# Altium footprint library Kondensator_DIP.PcbLib: 222 footprints (part 5 of 14)
Each footprint in its own frame and in the unit in brackets; x right, y up, seen from the top. Pads: shape width x height; smd on the part's side, far side on the other; paste and mask are expansions set on the pad; w line width, h text height; cw(c..) or ccw(c..) is an arc to the next point about the centre after c.
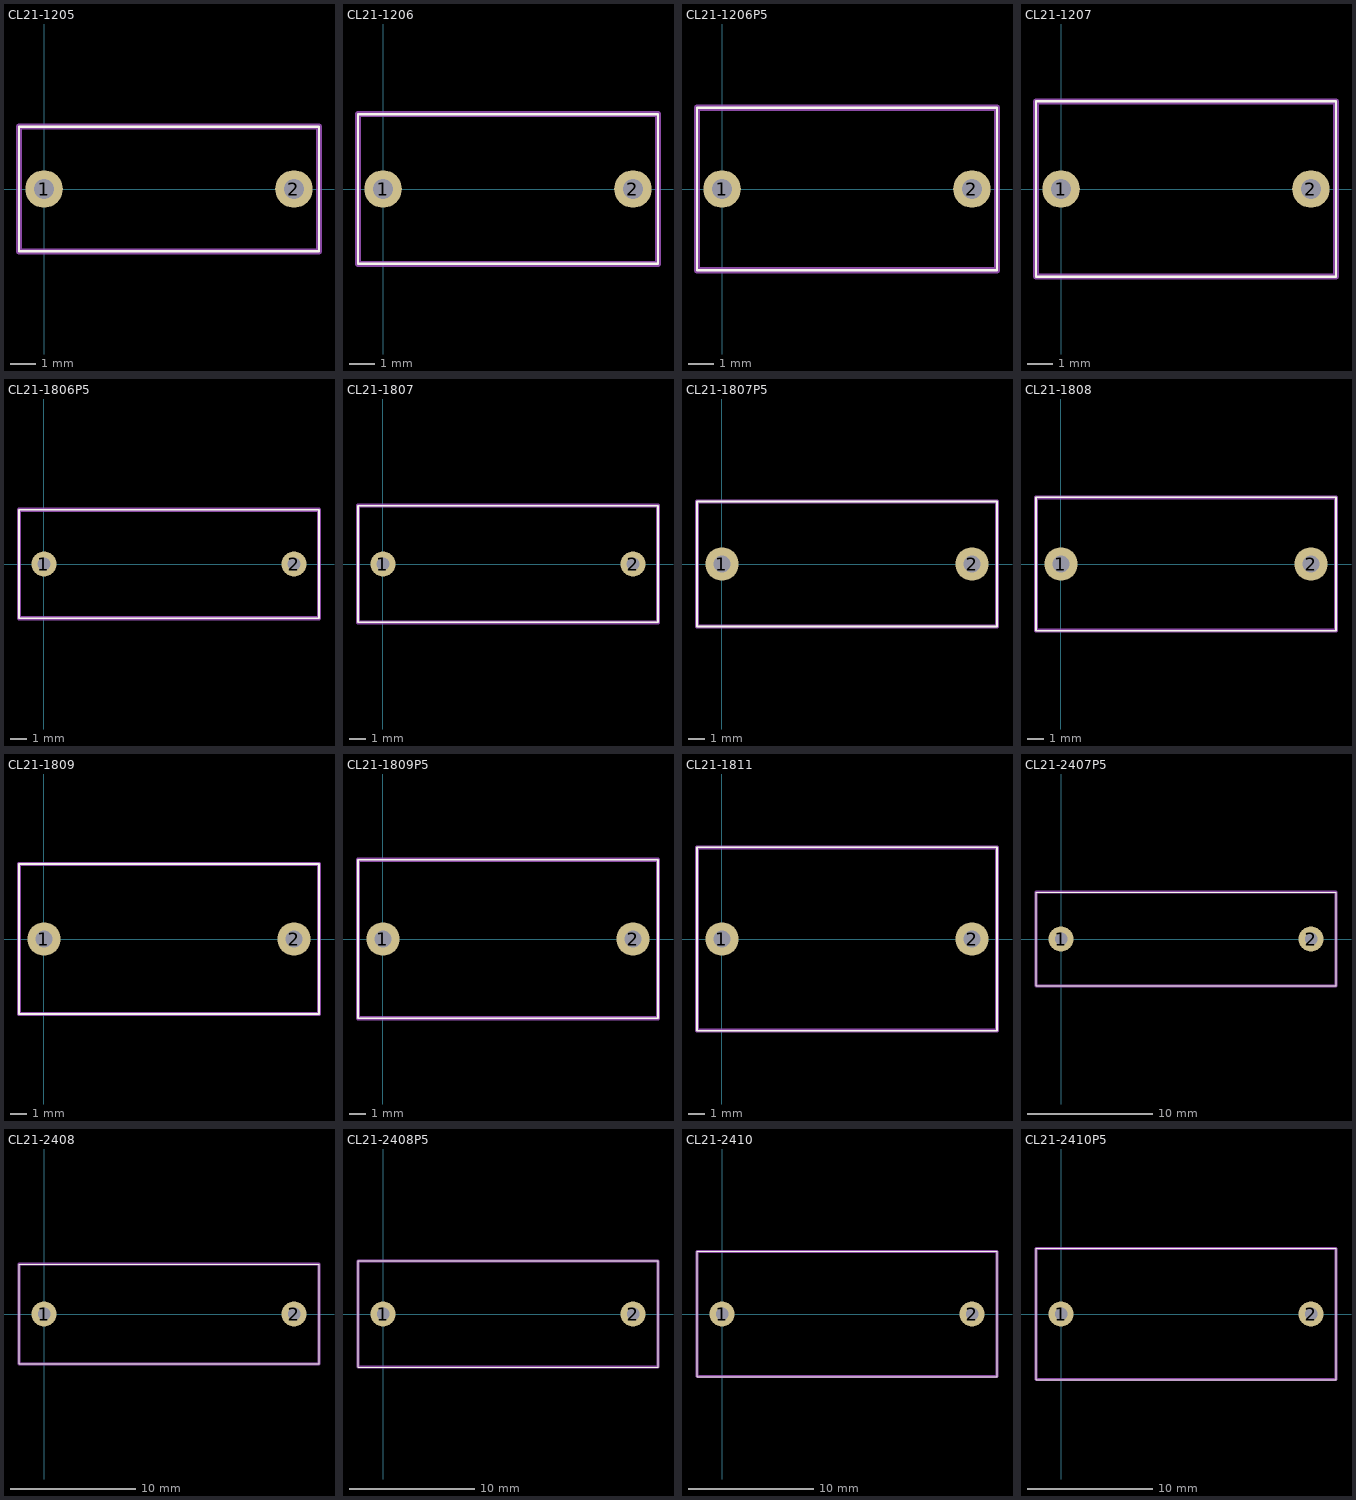
[diagram p4: the footprints below, top view; thin cyan lines are the x and y axes]

## CL21-1205 [mm]
pads (2):
  round 1.5 hole 0.8: 1(0,0) 2(10,0)
Top Overlay:
  lines w0.1: -1,-2.5 11,-2.5 11,2.5 -1,2.5 -1,-2.5
Mechanical 1:
  lines w0.25: -1,-2.5 11,-2.5 11,2.5 -1,2.5 -1,-2.5

## CL21-1206 [mm]
pads (2):
  round 1.5 hole 0.8: 1(0,0) 2(10,0)
Top Overlay:
  lines w0.1: -1,-3 11,-3 11,3 -1,3 -1,-3
Mechanical 1:
  lines w0.25: -1,-3 11,-3 11,3 -1,3 -1,-3

## CL21-1206P5 [mm]
pads (2):
  round 1.5 hole 0.8: 1(0,0) 2(10,0)
Top Overlay:
  lines w0.1: -1,-3.25 11,-3.25 11,3.25 -1,3.25 -1,-3.25
Mechanical 1:
  lines w0.25: -1,-3.25 11,-3.25 11,3.25 -1,3.25 -1,-3.25

## CL21-1207 [mm]
pads (2):
  round 1.5 hole 0.8: 1(0,0) 2(10,0)
Top Overlay:
  lines w0.1: -1,-3.5 11,-3.5 11,3.5 -1,3.5 -1,-3.5
Mechanical 1:
  lines w0.25: -1,-3.5 11,-3.5 11,3.5 -1,3.5 -1,-3.5

## CL21-1806P5 [mm]
pads (2):
  round 1.5 hole 0.8: 1(0,0) 2(15,0)
Top Overlay:
  lines w0.1: -1.5,-3.25 16.5,-3.25 16.5,3.25 -1.5,3.25 -1.5,-3.25
Mechanical 1:
  lines w0.25: -1.5,-3.25 16.5,-3.25 16.5,3.25 -1.5,3.25 -1.5,-3.25

## CL21-1807 [mm]
pads (2):
  round 1.5 hole 0.8: 1(0,0) 2(15,0)
Top Overlay:
  lines w0.1: -1.5,-3.5 16.5,-3.5 16.5,3.5 -1.5,3.5 -1.5,-3.5
Mechanical 1:
  lines w0.25: -1.5,-3.5 16.5,-3.5 16.5,3.5 -1.5,3.5 -1.5,-3.5

## CL21-1807P5 [mm]
pads (2):
  round 2 hole 1: 1(0,0) 2(15,0)
Top Overlay:
  lines w0.1: -1.5,-3.75 16.5,-3.75 16.5,3.75 -1.5,3.75 -1.5,-3.75
Mechanical 1:
  lines w0.25: -1.5,-3.75 16.5,-3.75 16.5,3.75 -1.5,3.75 -1.5,-3.75

## CL21-1808 [mm]
pads (2):
  round 2 hole 1: 1(0,0) 2(15,0)
Top Overlay:
  lines w0.1: -1.5,-4 16.5,-4 16.5,4 -1.5,4 -1.5,-4
Mechanical 1:
  lines w0.25: -1.5,-4 16.5,-4 16.5,4 -1.5,4 -1.5,-4

## CL21-1809 [mm]
pads (2):
  round 2 hole 1: 1(0,0) 2(15,0)
Top Overlay:
  lines w0.1: -1.5,-4.5 16.5,-4.5 16.5,4.5 -1.5,4.5 -1.5,-4.5
Mechanical 1:
  lines w0.25: -1.5,-4.5 16.5,-4.5 16.5,4.5 -1.5,4.5 -1.5,-4.5

## CL21-1809P5 [mm]
pads (2):
  round 2 hole 1: 1(0,0) 2(15,0)
Top Overlay:
  lines w0.1: -1.5,-4.75 16.5,-4.75 16.5,4.75 -1.5,4.75 -1.5,-4.75
Mechanical 1:
  lines w0.25: -1.5,-4.75 16.5,-4.75 16.5,4.75 -1.5,4.75 -1.5,-4.75

## CL21-1811 [mm]
pads (2):
  round 2 hole 1: 1(0,0) 2(15,0)
Top Overlay:
  lines w0.1: -1.5,-5.5 16.5,-5.5 16.5,5.5 -1.5,5.5 -1.5,-5.5
Mechanical 1:
  lines w0.25: -1.5,-5.5 16.5,-5.5 16.5,5.5 -1.5,5.5 -1.5,-5.5

## CL21-2407P5 [mm]
pads (2):
  round 2 hole 1: 1(0,0) 2(20,0)
Top Overlay:
  lines w0.1: -2,-3.75 22,-3.75 22,3.75 -2,3.75 -2,-3.75
Mechanical 1:
  lines w0.25: -2,-3.75 22,-3.75 22,3.75 -2,3.75 -2,-3.75

## CL21-2408 [mm]
pads (2):
  round 2 hole 1: 1(0,0) 2(20,0)
Top Overlay:
  lines w0.1: -2,-4 22,-4 22,4 -2,4 -2,-4
Mechanical 1:
  lines w0.25: -2,-4 22,-4 22,4 -2,4 -2,-4

## CL21-2408P5 [mm]
pads (2):
  round 2 hole 1: 1(0,0) 2(20,0)
Top Overlay:
  lines w0.1: -2,-4.25 22,-4.25 22,4.25 -2,4.25 -2,-4.25
Mechanical 1:
  lines w0.25: -2,-4.25 22,-4.25 22,4.25 -2,4.25 -2,-4.25

## CL21-2410 [mm]
pads (2):
  round 2 hole 1: 1(0,0) 2(20,0)
Top Overlay:
  lines w0.1: -2,-5 22,-5 22,5 -2,5 -2,-5
Mechanical 1:
  lines w0.25: -2,-5 22,-5 22,5 -2,5 -2,-5

## CL21-2410P5 [mm]
pads (2):
  round 2 hole 1: 1(0,0) 2(20,0)
Top Overlay:
  lines w0.1: -2,-5.25 22,-5.25 22,5.25 -2,5.25 -2,-5.25
Mechanical 1:
  lines w0.25: -2,-5.25 22,-5.25 22,5.25 -2,5.25 -2,-5.25